# EAGLE library part MC11-G (library con-phoenix-381)
Mini-Combicon 3.81mm horizontal 11-polig MC 1,5/11-G-3,81 Artikel-Nr. 1803361 mit Gegenstecker MC 1,5/11-ST-3,81 Artikel-Nr. 1803662
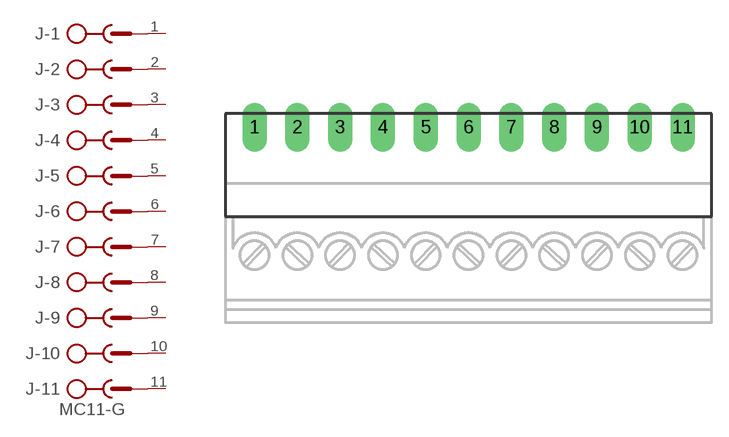
[diagram p18: symbol with the pads of MC11-G; footprint MC11-G]

Designator prefix J; gates -1=SK -2=SK -3=SK -4=SK -5=SK -6=SK -7=SK -8=SK -9=SK -10=SK -11=SK+V

## MC11-G  [MC11-G]
1  -1:SK  pas
2  -2:SK  pas
3  -3:SK  pas
4  -4:SK  pas
5  -5:SK  pas
6  -6:SK  pas
7  -7:SK  pas
8  -8:SK  pas
9  -9:SK  pas
10  -10:SK  pas
11  -11:SK  pas

## Footprint MC11-G (pad centres in mm)
Mini-Combicon 3.81mm horizontal 11-polig MC 1,5/11-G-3,81 Artikel-Nr. 1803361 mit Gegenstecker MC 1,5/11-ST-3,81 Artikel-Nr. 1803662
drill 1.27 pad 2.184 long: 1 -19.05,0; 2 -15.24,0; 3 -11.43,0; 4 -7.62,0; 5 -3.81,0; 6 0,0; 7 3.81,0; 8 7.62,0; 9 11.43,0; 10 15.24,0; 11 19.05,0